# Altium footprint library PCB - CAPACITOR - ALUMINIUM - CAP TH ALUM ELEC D5.00mm S2.00mm H8.00mm.PCBLIB: 1 footprints
Each footprint in its own frame and in the unit in brackets; x right, y up, seen from the top. Pads: shape width x height; smd on the part's side, far side on the other; paste and mask are expansions set on the pad; w line width, h text height; cw(c..) or ccw(c..) is an arc to the next point about the centre after c.
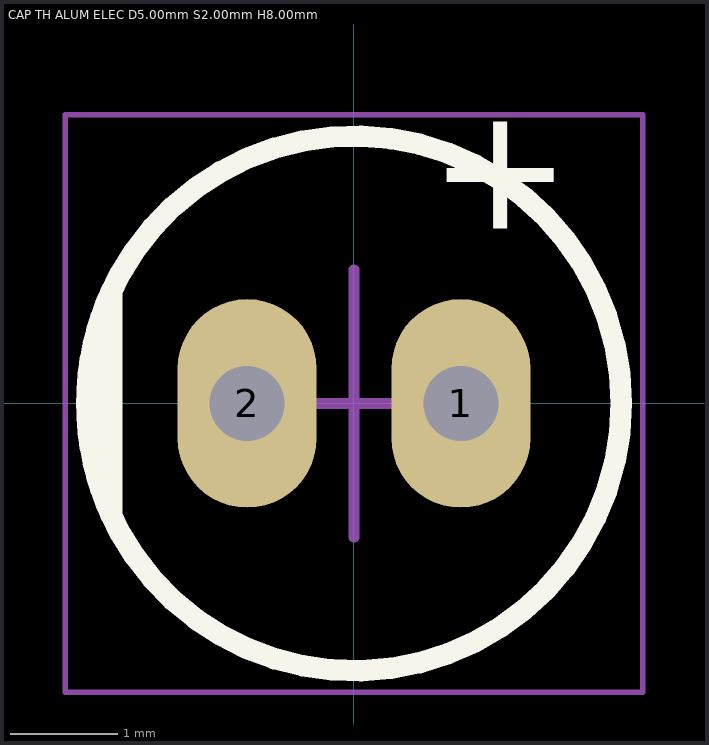
[diagram p0: the footprint, top view; thin cyan lines are the x and y axes]

## CAP TH ALUM ELEC D5.00mm S2.00mm H8.00mm [mm] "5mm Diameter 2mm Lead Spacing Aluminum Electrolytic Capacitors Radial, Can"
height 8
pads (2):
  oval 1.3x1.95 hole 0.7: 1(1,0) 2(-1,0)
Top Overlay:
  circle w0.2: c0,0 r2.5
  region: -2.266,-1.057 -2.323,-0.933 -2.411,-0.674 -2.47,-0.408 -2.5,-0.136 -2.5,0.136 -2.47,0.408 -2.411,0.674 -2.323,0.933 -2.266,1.057
  lines w0.2: -2.266,-1.057 cw(c0,0) -2.266,1.057 -2.266,-1.057
  text "+" at 0.7,1.25 h2
Mechanical 13:
  circle w0.1: c0,0 r2.5
  lines w0.1: -2.266,-1.057 -2.266,1.057
Mechanical 15:
  lines w0.05: -2.7,-2.7 2.7,-2.7 2.7,2.7 -2.7,2.7 -2.7,-2.7
  lines w0.1: -1.25,0 0,0 ; 0,-1.25 0,0 ; 0,1.25 0,0 ; 1.25,0 0,0
3D body "Cap TH D5.00mm H8.00mm L2.00mm.step": height 8, standoff -2.5, extent -2.509,-2.5 2.5,2.5